# EAGLE library part MCP4017T-103E_LT (library SamacSys_Parts)
Digital Potentiometer, 10k, 7-bit, I2C Source: Datasheet <https://datasheet.datasheetarchive.com/originals/distributors/Datasheets-DGA14/624353.pdf>
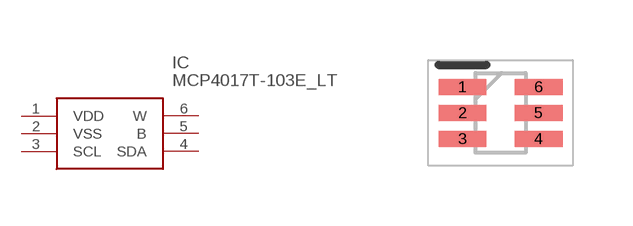
[diagram p100: symbol with the pads of SOT65P210X110-6N; footprint SOT65P210X110-6N]

Designator prefix IC

## MCP4017T-103E_LT (DESCRIPTION: Digital Potentiometer, 10k, 7-bit, I2C; HEIGHT: 1.1mm; MANUFACTURER_NAME: Microchip; MANUFACTURER_PART_NUMBER: MCP4017T-103E/LT; MOUSER_PART_NUMBER: 579-MCP4017T103E/LT; MOUSER_PRICE-STOCK: https://www.mouser.co.uk/ProductDetail/Microchip-Technology/MCP4017T-103E-LT?qs=%2FsslhGPpiOQYx8130JNsXw%3D%3D)  [SOT65P210X110-6N]
1  VDD
2  VSS
3  SCL
4  SDA
5  B
6  W

## Footprint SOT65P210X110-6N (pad centres in mm)
DCK (R-PDSO-G6)
smd 1.2 x 0.4: 1 -0.95,0.65; 2 -0.95,0; 3 -0.95,-0.65; 4 0.95,-0.65; 5 0.95,0; 6 0.95,0.65